# Altium schematic symbol library NMJ6HFD2.SchLib: 1 symbol
Pins are listed as number, name and electrical type; pins without a type are passive.

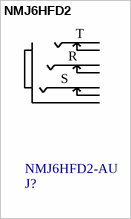
[diagram p0: symbol NMJ6HFD2]

## NMJ6HFD2
designator J?  Part Number: NMJ6HFD2-AU
CONN; Manufacturer: Neutrik; helpURL: https://upverter.com/upn/revision/333ae0b345d9b683/; ComponentLink2Description: Datasheet; Temperature: -25°C to +70°C; Package: CONN_JACK_PTH; Supplier 2: Mouser; Supplier 1: Digi-Key; ComponentLink1URL: https://upverter.com/upn/revision/333ae0b345d9b683/; Supplier Part Number 2: 568-NMJ6HFD2-AU; ComponentLink1Description: Upverter; ComponentLink2URL: https://upverter.com/datasheet/6aa65cbdf504a0ad5090dd87f476d1621c9504e6.pdf; RoHS: TRUE; Mouser Part Number: 568-NMJ6HFD2-AU; Digikey Description: CONN; Lead Free: yes; Temperature Range Low: -25°C; Temperature Range High: +70°C
footprint NMJ6HFD2
pins: R, RN, S, SN, T, TN